# Altium footprint library PcbLib.PcbLib: 8 footprints
Each footprint in its own frame and in the unit in brackets; x right, y up, seen from the top. Pads: shape width x height; smd on the part's side, far side on the other; paste and mask are expansions set on the pad; w line width, h text height; cw(c..) or ccw(c..) is an arc to the next point about the centre after c.
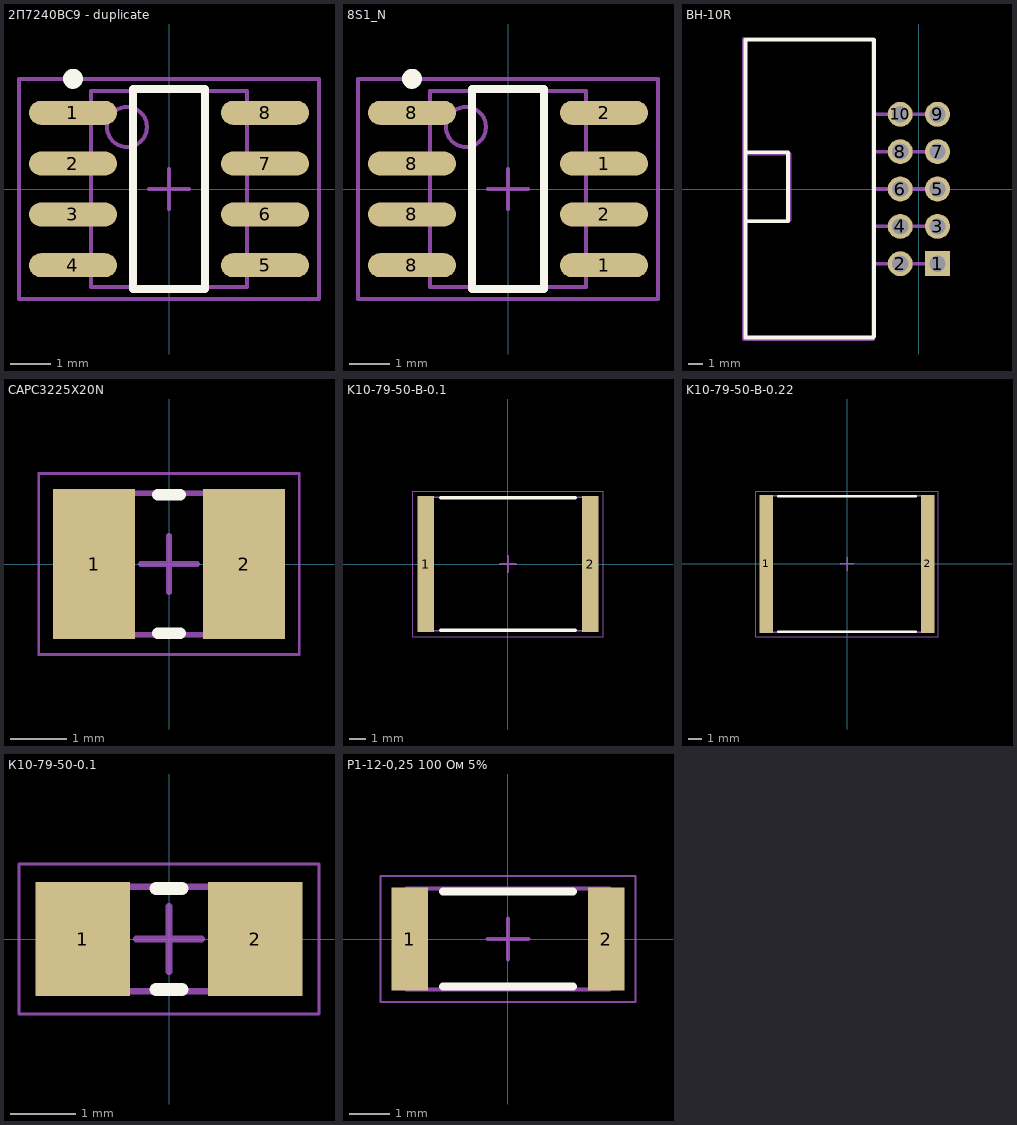
[diagram p0: the footprints below, top view; thin cyan lines are the x and y axes]

## 2П7240ВС9 - duplicate [mm] "8-Pin Small Outline Integrated Circuit 1.27 mm Pitch, IPC Medium Density"
height 1.73
pads (8):
  oval 2.2x0.6 smd: 1(-2.4,1.905) 2(-2.4,0.635) 3(-2.4,-0.635) 4(-2.4,-1.905) 5(2.4,-1.905) 6(2.4,-0.635) 7(2.4,0.635) 8(2.4,1.905)
Top Overlay:
  circle w0.25: c-2.4,2.755 r0.125
  lines w0.2: -0.9,-2.5 0.9,-2.5 0.9,2.5 -0.9,2.5 -0.9,-2.5
Mechanical 13:
  circle w0.1: c-1.05,1.55 r0.5
  lines w0.1: -1.95,-2.45 1.95,-2.45 1.95,2.45 -1.95,2.45 -1.95,-2.45
Mechanical 15:
  lines w0.1: -0.5,0 0.5,0 ; 0,-0.5 0,0.5 ; -3.75,-2.75 3.75,-2.75 3.75,2.75 -3.75,2.75 -3.75,-2.75
3D body: height 1.73, standoff 0, extent -1.95,-2.45 1.95,2.45

## 8S1_N [mm] "8-Pin Small Outline Integrated Circuit 1.27 mm Pitch, IPC Medium Density"
height 1.73
pads (8):
  oval 2.2x0.6 smd: 1(2.4,-1.905) 1(2.4,0.635) 2(2.4,-0.635) 2(2.4,1.905) 8(-2.4,-1.905) 8(-2.4,-0.635) 8(-2.4,0.635) 8(-2.4,1.905)
Top Overlay:
  circle w0.25: c-2.4,2.755 r0.125
  lines w0.2: -0.9,-2.5 0.9,-2.5 0.9,2.5 -0.9,2.5 -0.9,-2.5
Mechanical 13:
  circle w0.1: c-1.05,1.55 r0.5
  lines w0.1: -1.95,-2.45 1.95,-2.45 1.95,2.45 -1.95,2.45 -1.95,-2.45
Mechanical 15:
  lines w0.1: -0.5,0 0.5,0 ; 0,-0.5 0,0.5 ; -3.75,-2.75 3.75,-2.75 3.75,2.75 -3.75,2.75 -3.75,-2.75
3D body: height 1.73, standoff 0, extent -1.95,-2.45 1.95,2.45

## BH-10R [mm] "Разъем угловой 2х5х2,54 типа ВН"
height 9.1
pads (10):
  rect 1.7x1.7 hole 1.1: 1(1.27,-5.08)
  round 1.7 hole 1.1: 2(-1.27,-5.08) 3(1.27,-2.54) 4(-1.27,-2.54) 5(1.27,0) 6(-1.27,0) 7(1.27,2.54) 8(-1.27,2.54) 9(1.27,5.08) 10(-1.27,5.08)
Top Overlay:
  lines w0.254: -11.8,-2.2 -8.9,-2.2 -8.9,2.5 -11.8,2.5 ; -3.1,-10.1 -11.8,-10.1 -11.8,10.15 -3.05,10.15 -3.05,-10.05
Mechanical 1:
  text ".Designator" at -4.1,-4.6 h2
Top Assembly:
  lines w0.254: -11.9,2.4 -8.8,2.4 -8.8,-2.1 -8.9,-2.2 -11.7,-2.2 ; -3.1,0 1.27,0 ; -3.06,-2.54 1.27,-2.54 ; -3.06,2.54 1.27,2.54 ; 1.27,-5.08 -1.27,-5.08 -3.1,-5.08 ; 1.27,5.08 -3.1,5.08 ; -3.1,-5.08 -3.1,5.08 ; -3.1,-5.08 -3.1,-10.2 -11.9,-10.2 -11.9,10.2 -3.1,10.2 -3.1,5.08
3D body "TE_1-1634689-0_IDC10_RA.STEP": height 9.13, standoff -2.97, extent -11.85,-10.2 1.65,10.15

## CAPC3225X20N [mm] "Chip Capacitor, 2-Leads, Body 3,20x2,50mm, IPC Medium Density"
height 2
pads (2):
  rect 1.45x2.65 smd: 1(-1.325,0) 2(1.325,0)
Top Overlay:
  lines w0.2: -0.2,-1.225 0.2,-1.225 ; -0.2,1.225 0.2,1.225
Top Assembly:
  lines w0.1: -1.6,-1.25 -1.6,1.25 1.6,1.25 1.6,-1.25 -1.6,-1.25
Mechanical 15:
  lines w0.05: -2.3,-1.6 -2.3,1.6 2.3,1.6 2.3,-1.6 -2.3,-1.6
  lines w0.1: -0.5,0 0.5,0 ; 0,-0.5 0,0.5
3D body: height 2, standoff 0, extent -1.05,-1.25 1.05,1.25
3D body: height 2, standoff 0, extent -1.6,-1.25 -1.05,1.25
3D body: height 2, standoff 0, extent 1.05,-1.25 1.6,1.25

## K10-79-50-B-0.1 [mm] "Chip Capacitor, 2-Leads, Body 10,00x8,00mm, IPC Medium Density"
height 1.5
pads (2):
  rect 1x8.15 smd: 1(-4.925,0) 2(4.925,0)
Top Overlay:
  lines w0.2: -4.05,-3.975 4.05,-3.975 ; -4.05,3.975 4.05,3.975
Mechanical 13:
  lines w0.1: -5,-4 5,-4 5,4 -5,4 -5,-4
Mechanical 15:
  lines w0.05: -5.7,-4.35 5.7,-4.35 5.7,4.35 -5.7,4.35 -5.7,-4.35
  lines w0.1: -0.5,0 0.5,0 ; 0,-0.5 0,0.5
3D body: height 2, standoff 0, extent 4.5,-4 5,4
3D body: height 2, standoff 0, extent -5,-4 -4.5,4
3D body: height 2, standoff 0, extent -4.5,-4 4.5,4

## K10-79-50-B-0.22 [mm]
height 3
pads (2):
  rect 1x10.15 smd: 1(-5.925,0) 2(5.925,0)
Top Overlay:
  lines w0.2: -5.05,-4.975 5.05,-4.975 ; -5.05,4.975 5.05,4.975
Mechanical 13:
  lines w0.1: -6,-5 6,-5 6,5 -6,5 -6,-5
Mechanical 15:
  lines w0.05: -6.7,-5.35 6.7,-5.35 6.7,5.35 -6.7,5.35 -6.7,-5.35
  lines w0.1: -0.5,0 0.5,0 ; 0,-0.5 0,0.5
3D body: height 2, standoff 0, extent 5.5,-5 6,5
3D body: height 2, standoff 0, extent -6,-5 -5.5,5
3D body: height 2, standoff 0, extent -5.5,-5 5.5,5

## К10-79-50-0.1 [mm] "Chip Capacitor, 2-Leads, Body 3,20x1,60mm, IPC Medium Density"
height 1.6
pads (2):
  rect 1.45x1.75 smd: 1(-1.325,0) 2(1.325,0)
Top Overlay:
  lines w0.2: -0.2,-0.775 0.2,-0.775 ; -0.2,0.775 0.2,0.775
Top Assembly:
  lines w0.1: -1.6,-0.8 1.6,-0.8 1.6,0.8 -1.6,0.8 -1.6,-0.8
Mechanical 15:
  lines w0.05: -2.3,-1.15 2.3,-1.15 2.3,1.15 -2.3,1.15 -2.3,-1.15
  lines w0.1: -0.5,0 0.5,0 ; 0,-0.5 0,0.5
3D body: height 1.6, standoff 0, extent 1.05,-0.8 1.6,0.8
3D body: height 1.6, standoff 0, extent -1.6,-0.8 -1.05,0.8
3D body: height 1.6, standoff 0, extent -1.05,-0.8 1.05,0.8

## Р1-12-0,25 100 Ом 5% [mm]
height 0.6
pads (2):
  rect 0.9x2.55 smd: 1(-2.425,0) 2(2.425,0)
Top Overlay:
  lines w0.2: -1.6,-1.175 1.6,-1.175 ; -1.6,1.175 1.6,1.175
Mechanical 13:
  lines w0.1: -2.5,-1.25 -2.5,1.25 2.5,1.25 2.5,-1.25 -2.5,-1.25
Mechanical 15:
  lines w0.05: -3.15,-1.55 -3.15,1.55 3.15,1.55 3.15,-1.55 -3.15,-1.55
  lines w0.1: -0.5,0 0.5,0 ; 0,-0.5 0,0.5
3D body: height 0.6, standoff 0, extent -2,-1.25 2,1.25
3D body: height 0.6, standoff 0, extent -2.5,-1.25 -2,1.25
3D body: height 0.6, standoff 0, extent 2,-1.25 2.5,1.25